# Altium schematic symbol library SCH - MCU - STM32 - ST MICROELECTRONICS STM32H563MIYXQ WLCSP80.SchLib: 1 symbol
Pins are listed as number, name and electrical type; pins without a type are passive.

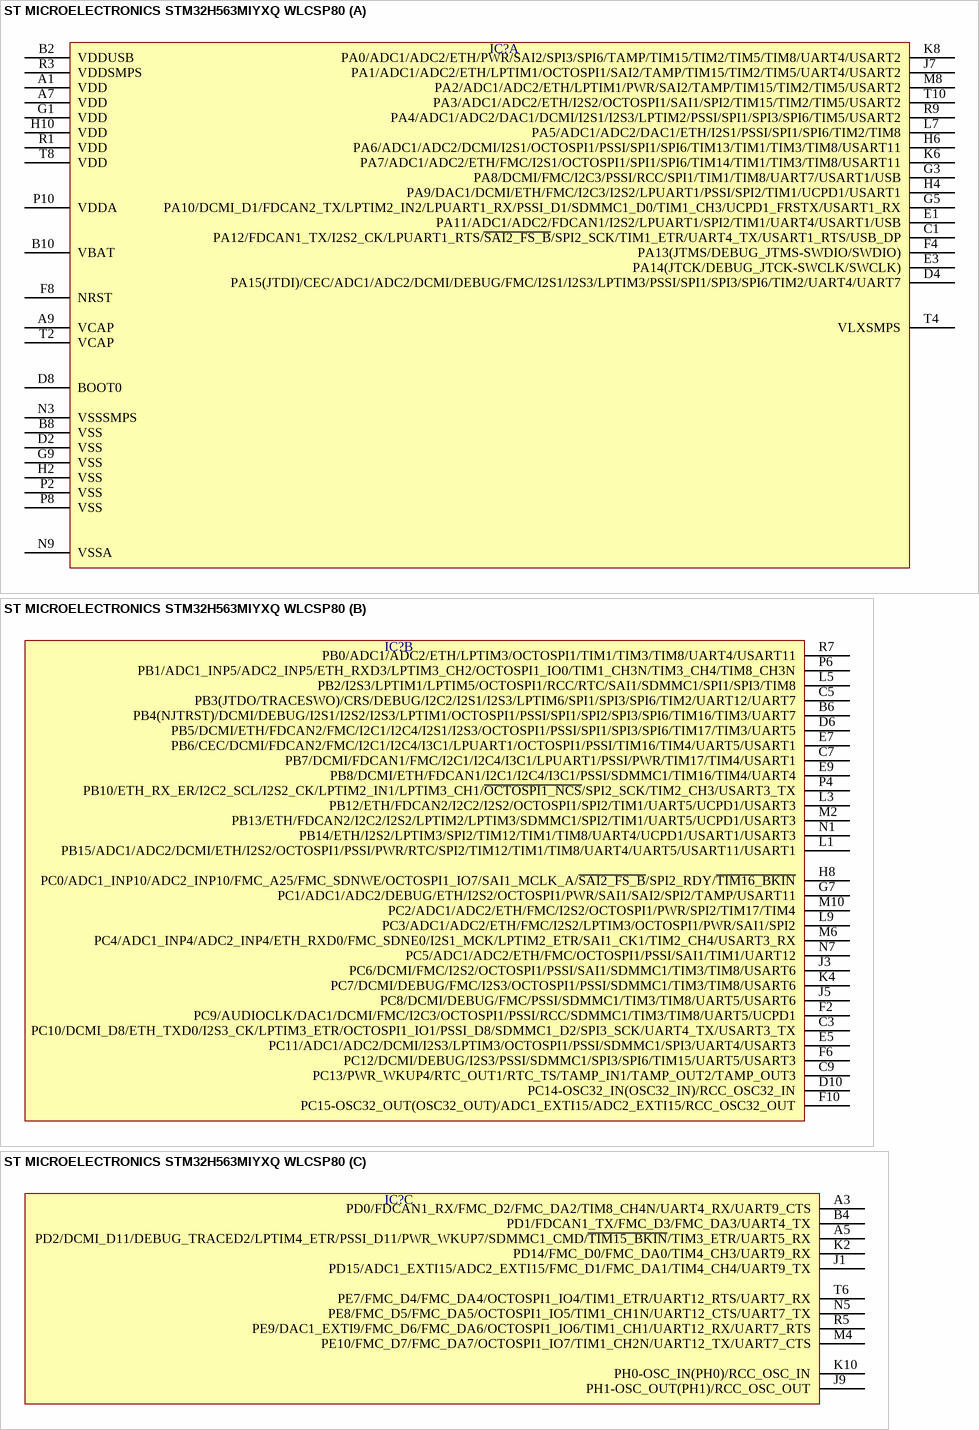
[diagram p0: symbol ST MICROELECTRONICS STM32H563MIYXQ WLCSP80]

## ST MICROELECTRONICS STM32H563MIYXQ WLCSP80
designator IC?  (value not drawn)
part A pins: A1 VDD, A7 VDD, A9 VCAP, B2 VDDUSB, B8 VSS, B10 VBAT, C1 PA12/FDCAN1_TX/I2S2_CK/LPUART1_RTS/~{SAI2_FS_B}/SPI2_SCK/TIM1_ETR/UART4_TX/USART1_RTS/USB_DP, D2 VSS, D4 PA15(JTDI)/CEC/ADC1/ADC2/DCMI/DEBUG/FMC/I2S1/I2S3/LPTIM3/PSSI/SPI1/SPI3/SPI6/TIM2/UART4/UART7, D8 BOOT0, E1 PA11/ADC1/ADC2/FDCAN1/I2S2/LPUART1/SPI2/TIM1/UART4/USART1/USB, E3 PA14(JTCK/DEBUG_JTCK-SWCLK/SWCLK), F4 PA13(JTMS/DEBUG_JTMS-SWDIO/SWDIO), F8 NRST, G1 VDD, G3 PA8/DCMI/FMC/I2C3/PSSI/RCC/SPI1/TIM1/TIM8/UART7/USART1/USB, G5 PA10/DCMI_D1/FDCAN2_TX/LPTIM2_IN2/LPUART1_RX/PSSI_D1/SDMMC1_D0/TIM1_CH3/UCPD1_FRSTX/USART1_RX, G9 VSS, H2 VSS, H4 PA9/DAC1/DCMI/ETH/FMC/I2C3/I2S2/LPUART1/PSSI/SPI2/TIM1/UCPD1/USART1, H6 PA6/ADC1/ADC2/DCMI/I2S1/OCTOSPI1/PSSI/SPI1/SPI6/TIM13/TIM1/TIM3/TIM8/USART11, H10 VDD, J7 PA1/ADC1/ADC2/ETH/LPTIM1/OCTOSPI1/SAI2/TAMP/TIM15/TIM2/TIM5/UART4/USART2, K6 PA7/ADC1/ADC2/ETH/FMC/I2S1/OCTOSPI1/SPI1/SPI6/TIM14/TIM1/TIM3/TIM8/USART11, K8 PA0/ADC1/ADC2/ETH/PWR/SAI2/SPI3/SPI6/TAMP/TIM15/TIM2/TIM5/TIM8/UART4/USART2, L7 PA5/ADC1/ADC2/DAC1/ETH/I2S1/PSSI/SPI1/SPI6/TIM2/TIM8, M8 PA2/ADC1/ADC2/ETH/LPTIM1/PWR/SAI2/TAMP/TIM15/TIM2/TIM5/USART2, N3 VSSSMPS, N9 VSSA, P2 VSS, P8 VSS, P10 VDDA, R1 VDD, R3 VDDSMPS, R9 PA4/ADC1/ADC2/DAC1/DCMI/I2S1/I2S3/LPTIM2/PSSI/SPI1/SPI3/SPI6/TIM5/USART2, T2 VCAP, T4 VLXSMPS, T8 VDD, T10 PA3/ADC1/ADC2/ETH/I2S2/OCTOSPI1/SAI1/SPI2/TIM15/TIM2/TIM5/USART2
part B pins: B6 PB4(NJTRST)/DCMI/DEBUG/I2S1/I2S2/I2S3/LPTIM1/OCTOSPI1/PSSI/SPI1/SPI2/SPI3/SPI6/TIM16/TIM3/UART7, C3 PC10/DCMI_D8/ETH_TXD0/I2S3_CK/LPTIM3_ETR/OCTOSPI1_IO1/PSSI_D8/SDMMC1_D2/SPI3_SCK/UART4_TX/USART3_TX, C5 PB3(JTDO/TRACESWO)/CRS/DEBUG/I2C2/I2S1/I2S3/LPTIM6/SPI1/SPI3/SPI6/TIM2/UART12/UART7, C7 PB7/DCMI/FDCAN1/FMC/I2C1/I2C4/I3C1/LPUART1/PSSI/PWR/TIM17/TIM4/USART1, C9 PC13/PWR_WKUP4/RTC_OUT1/RTC_TS/TAMP_IN1/TAMP_OUT2/TAMP_OUT3, D6 PB5/DCMI/ETH/FDCAN2/FMC/I2C1/I2C4/I2S1/I2S3/OCTOSPI1/PSSI/SPI1/SPI3/SPI6/TIM17/TIM3/UART5, D10 PC14-OSC32_IN(OSC32_IN)/RCC_OSC32_IN, E5 PC11/ADC1/ADC2/DCMI/I2S3/LPTIM3/OCTOSPI1/PSSI/SDMMC1/SPI3/UART4/USART3, E7 PB6/CEC/DCMI/FDCAN2/FMC/I2C1/I2C4/I3C1/LPUART1/OCTOSPI1/PSSI/TIM16/TIM4/UART5/USART1, E9 PB8/DCMI/ETH/FDCAN1/I2C1/I2C4/I3C1/PSSI/SDMMC1/TIM16/TIM4/UART4, F2 PC9/AUDIOCLK/DAC1/DCMI/FMC/I2C3/OCTOSPI1/PSSI/RCC/SDMMC1/TIM3/TIM8/UART5/UCPD1, F6 PC12/DCMI/DEBUG/I2S3/PSSI/SDMMC1/SPI3/SPI6/TIM15/UART5/USART3, F10 PC15-OSC32_OUT(OSC32_OUT)/ADC1_EXTI15/ADC2_EXTI15/RCC_OSC32_OUT, G7 PC1/ADC1/ADC2/DEBUG/ETH/I2S2/OCTOSPI1/PWR/SAI1/SAI2/SPI2/TAMP/USART11, H8 PC0/ADC1_INP10/ADC2_INP10/FMC_A25/FMC_SDNWE/OCTOSPI1_IO7/SAI1_MCLK_A/~{SAI2_FS_B}/SPI2_RDY/~{TIM16_BKIN}, J3 PC6/DCMI/FMC/I2S2/OCTOSPI1/PSSI/SAI1/SDMMC1/TIM3/TIM8/USART6, J5 PC8/DCMI/DEBUG/FMC/PSSI/SDMMC1/TIM3/TIM8/UART5/USART6, K4 PC7/DCMI/DEBUG/FMC/I2S3/OCTOSPI1/PSSI/SDMMC1/TIM3/TIM8/USART6, L1 PB15/ADC1/ADC2/DCMI/ETH/I2S2/OCTOSPI1/PSSI/PWR/RTC/SPI2/TIM12/TIM1/TIM8/UART4/UART5/USART11/USART1, L3 PB12/ETH/FDCAN2/I2C2/I2S2/OCTOSPI1/SPI2/TIM1/UART5/UCPD1/USART3, L5 PB2/I2S3/LPTIM1/LPTIM5/OCTOSPI1/RCC/RTC/SAI1/SDMMC1/SPI1/SPI3/TIM8, L9 PC3/ADC1/ADC2/ETH/FMC/I2S2/LPTIM3/OCTOSPI1/PWR/SAI1/SPI2, M2 PB13/ETH/FDCAN2/I2C2/I2S2/LPTIM2/LPTIM3/SDMMC1/SPI2/TIM1/UART5/UCPD1/USART3, M6 PC4/ADC1_INP4/ADC2_INP4/ETH_RXD0/FMC_SDNE0/I2S1_MCK/LPTIM2_ETR/SAI1_CK1/TIM2_CH4/USART3_RX, M10 PC2/ADC1/ADC2/ETH/FMC/I2S2/OCTOSPI1/PWR/SPI2/TIM17/TIM4, N1 PB14/ETH/I2S2/LPTIM3/SPI2/TIM12/TIM1/TIM8/UART4/UCPD1/USART1/USART3, N7 PC5/ADC1/ADC2/ETH/FMC/OCTOSPI1/PSSI/SAI1/TIM1/UART12, P4 PB10/ETH_RX_ER/I2C2_SCL/I2S2_CK/LPTIM2_IN1/LPTIM3_CH1/~{OCTOSPI1_NCS}/SPI2_SCK/TIM2_CH3/USART3_TX, P6 PB1/ADC1_INP5/ADC2_INP5/ETH_RXD3/LPTIM3_CH2/OCTOSPI1_IO0/TIM1_CH3N/TIM3_CH4/TIM8_CH3N, R7 PB0/ADC1/ADC2/ETH/LPTIM3/OCTOSPI1/TIM1/TIM3/TIM8/UART4/USART11
part C pins: A3 PD0/FDCAN1_RX/FMC_D2/FMC_DA2/TIM8_CH4N/UART4_RX/UART9_CTS, A5 PD2/DCMI_D11/DEBUG_TRACED2/LPTIM4_ETR/PSSI_D11/PWR_WKUP7/SDMMC1_CMD/~{TIM15_BKIN}/TIM3_ETR/UART5_RX, B4 PD1/FDCAN1_TX/FMC_D3/FMC_DA3/UART4_TX, J1 PD15/ADC1_EXTI15/ADC2_EXTI15/FMC_D1/FMC_DA1/TIM4_CH4/UART9_TX, J9 PH1-OSC_OUT(PH1)/RCC_OSC_OUT, K2 PD14/FMC_D0/FMC_DA0/TIM4_CH3/UART9_RX, K10 PH0-OSC_IN(PH0)/RCC_OSC_IN, M4 PE10/FMC_D7/FMC_DA7/OCTOSPI1_IO7/TIM1_CH2N/UART12_TX/UART7_CTS, N5 PE8/FMC_D5/FMC_DA5/OCTOSPI1_IO5/TIM1_CH1N/UART12_CTS/UART7_TX, R5 PE9/DAC1_EXTI9/FMC_D6/FMC_DA6/OCTOSPI1_IO6/TIM1_CH1/UART12_RX/UART7_RTS, T6 PE7/FMC_D4/FMC_DA4/OCTOSPI1_IO4/TIM1_ETR/UART12_RTS/UART7_RX